# EAGLE library part TSC2046EIPW (library Board4You)
TOUCH SCREEN CONTROLLER
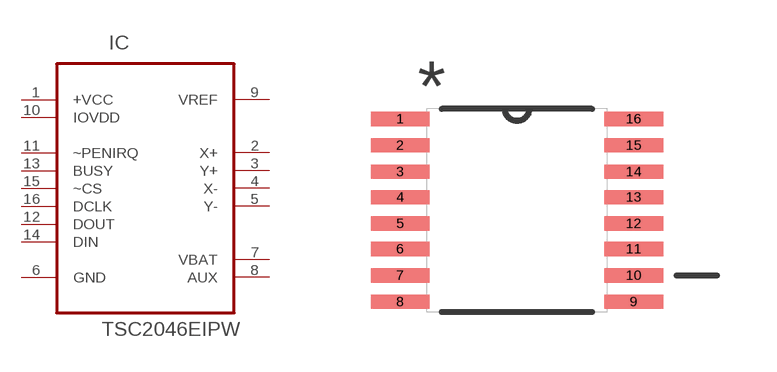
[diagram p11: symbol with the pads of SOP65P640X120-16N; footprint SOP65P640X120-16N]

Designator prefix IC

## TSC2046EIPW (MPN: TSC2046EIPW; OC_FARNELL: 1755601; OC_NEWARK: 52M6177; PACKAGE: TSSOP-16; SUPPLIER: TEXAS INSTRUMENTS)  [SOP65P640X120-16N]
1  +VCC  pwr
2  X+  in
3  Y+  in
4  X-  in
5  Y-  in
6  GND  pas
7  VBAT  in
8  AUX  in
9  VREF
10  IOVDD  pwr
11  ~PENIRQ  in
12  DOUT  out
13  BUSY  out
14  DIN  in
15  ~CS  in
16  DCLK  in

## Footprint SOP65P640X120-16N (pad centres in mm)
smd 1.473 x 0.356: 1 -2.921,2.286; 2 -2.921,1.626; 3 -2.921,0.965; 4 -2.921,0.33; 5 -2.921,-0.33; 6 -2.921,-0.965; 7 -2.921,-1.626; 8 -2.921,-2.286; 9 2.921,-2.286; 10 2.921,-1.626; 11 2.921,-0.965; 12 2.921,-0.33; 13 2.921,0.33; 14 2.921,0.965; 15 2.921,1.626; 16 2.921,2.286